# Altium schematic symbol library SuperCap.SchLib: 15 symbols
Pins are listed as number, name and electrical type; pins without a type are passive.

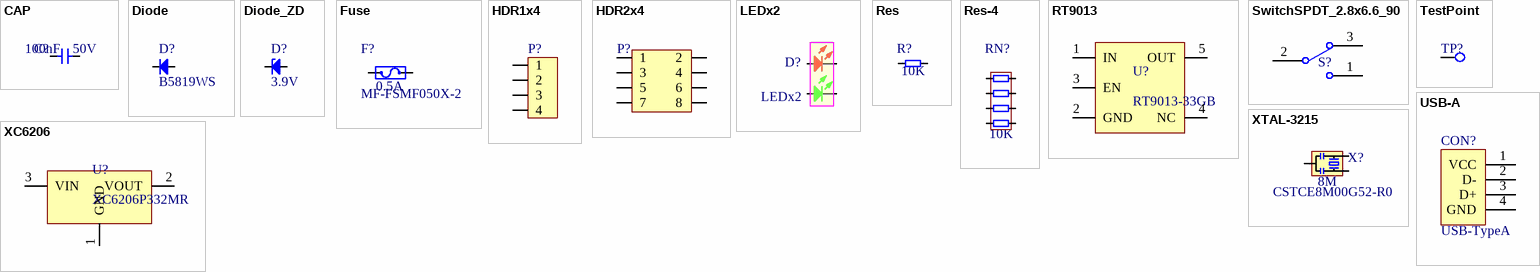
[diagram p0: symbols CAP to XTAL-3215]

## CAP
designator C?, comment Withstand Voltage: 50V  (hidden comment: 100nF)
电容; Type: 0603; Precision: 20%; Value: 100nF
footprint CAP_0603
footprint CAP-0805
pins: 1, 2

## Diode
designator D?, comment B5819WS
VMax: 40V; IMax: 1A; Type: Schottky; Model Number: B5819WS
footprint SOD_323
pins: 1, 2

## Diode_ZD
designator D?, comment 3.9V
Model Number: BZT52C3V9S; Zener Voltage: 3.9V
footprint SOD_323
pins: 1, 2

## Fuse
designator F?, comment MF-FSMF050X-2  IHold: 0.5A
VMax: 6V; Model Number: MF-FSMF050X-2
footprint Fuse_0603
pins: 1, 2

## HDR1x4
designator P?, comment HDR1x4_2.54  (value not drawn)
Header
footprint HDR1X4_2.54_90
footprint HDR1X4_2.54_180
pins: 1, 2, 3, 4

## HDR2x4
designator P?  (value not drawn)
Header
footprint HDR2X4_2.54_180H
pins: 1, 2, 3, 4, 5, 6, 7, 8

## LEDx2
designator D?
双色led
footprint LED_1616
pins: 1, 2, 3, 4

## Res
designator R?, comment 10K
电阻; Precision: 1%; Type: 0603; Value: 10K
footprint RES_0603
pins: 1, 2

## Res-4
designator RN?, comment 10K
4排阻; Precision: 5%; Type: 0603; Value: 10K
footprint R-0603X4
pins: 1, 2, 3, 4, 5, 6, 7, 8

## RT9013
designator U?, comment RT9013-33GB
LDO; VMax: 5.5V; IOut: 500mA; Model Number: RT9013-33GB
footprint SOT-23-5
pins: 1 IN, 2 GND, 3 EN, 4 NC, 5 OUT

## SwitchSPDT_2.8x6.6_90
designator S?, comment SPDT 3P  (value not drawn)
Switch; Value: SPDT 3P; Type: SPDT
footprint SwitchSPDT_2.8X6.6_90
pins: 1, 2, 3

## TestPoint
designator TP?  (value not drawn)
footprint TestPoint
pins: 1

## USB-A
designator CON?, comment USB-TypeA
footprint USB_A(M)_DIP
pins: 1 VCC, 2 D-, 3 D+, 4 GND

## XC6206
designator U?, comment XC6206P332MR
低压差稳压; IMax: 250mA; VinMax: 6V; Vout: 3.3V; Model Number: XC6206P332MR
footprint SOT-23-3
pins: 1 GND, 2 VOUT, 3 VIN

## XTAL-3215
designator X?, comment Model Number: CSTCE8M00G52-R0  (hidden comment: 8M)
3脚无源晶振; Value: 8M
footprint XTAL_3213
pins: 1 OSC1, 2 GND, 3 OSC2